# Altium schematic symbol library C3216X5R1A107M160AC.SchLib: 1 symbol
Pins are listed as number, name and electrical type; pins without a type are passive.

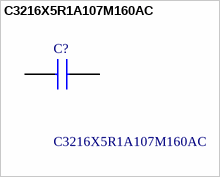
[diagram p0: symbol C3216X5R1A107M160AC]

## C3216X5R1A107M160AC
designator C?
1206 X5R ceramic capacitor 100uF 10V TDK 1206 C 100uF Ceramic Multilayer Capacitor, 10 V dc, +85degC, X5R Dielectric,  /-20% SMD; Geometry.Height: 1.8mm; Mouser Part Number: 810-C3216X5R1A107M; Mouser Price/Stock: https://www.mouser.co.uk/ProductDetail/TDK/C3216X5R1A107M160AC?qs=NRhsANhppD%252B0MpDu1pf9NA%3D%3D; Manufacturer_Name: TDK; Manufacturer_Part_Number: C3216X5R1A107M160AC; Datasheet Link: https://product.tdk.com/info/en/catalog/datasheets/mlcc_commercial_midvoltage_en.pdf
footprint CAPC3216X180N
pins: 1, 2